# Altium integrated library 5001.IntLib: 1 symbol
Pins are listed as number, name and electrical type; pins without a type are passive.

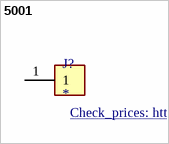
[diagram p0: symbol 5001]

## 5001
designator J?
Conn Test Point SKT 1 POS ST Thru-Hole 1 Port; MF: Keystone Electronics Corp.; MP: 5001; SnapEDA_Link: https://www.snapeda.com/parts/5001/Keystone%20Electronics/view-part/4775115/?ref=snap; Purchase-URL: https://pricing.snapeda.com/search/part/5001/?ref=eda; Value: *; Availability: Good; Price: None; Package: None; Check_prices: https://www.snapeda.com/parts/5001/Keystone%20Electronics/view-part/4775115/?ref=eda
footprint KEYSTONE_5001
pins: 1